# Altium schematic symbol library 502443-0270.SchLib: 1 symbol
Pins are listed as number, name and electrical type; pins without a type are passive.

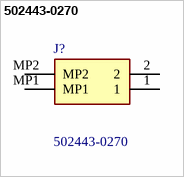
[diagram p0: symbol 502443-0270]

## 502443-0270
designator J?
2.00mm Pitch CLIK-Mate Wire-to-Board PCB Receptacle, Single Row, Vertical, 02 Circuits; Manufacturer_Name: Molex; Geometry.Height: 7.45mm; Mouser Part Number: 538-502443-0270; Mouser Price/Stock: https://www.mouser.co.uk/ProductDetail/Molex/502443-0270?qs=NYG%2FSvoKwdGCWyoWfQm9OQ%3D%3D; Manufacturer_Part_Number: 502443-0270; Datasheet Link: https://componentsearchengine.com/Datasheets/1/502443-0270.pdf
footprint 5024430270
pins: 1, 2, MP1, MP2